# EAGLE library part AD7656BSTZ-1 (library AD7656BSTZ-1--Symbol-Eagle-80)
16-/14-/12-Bit ADC
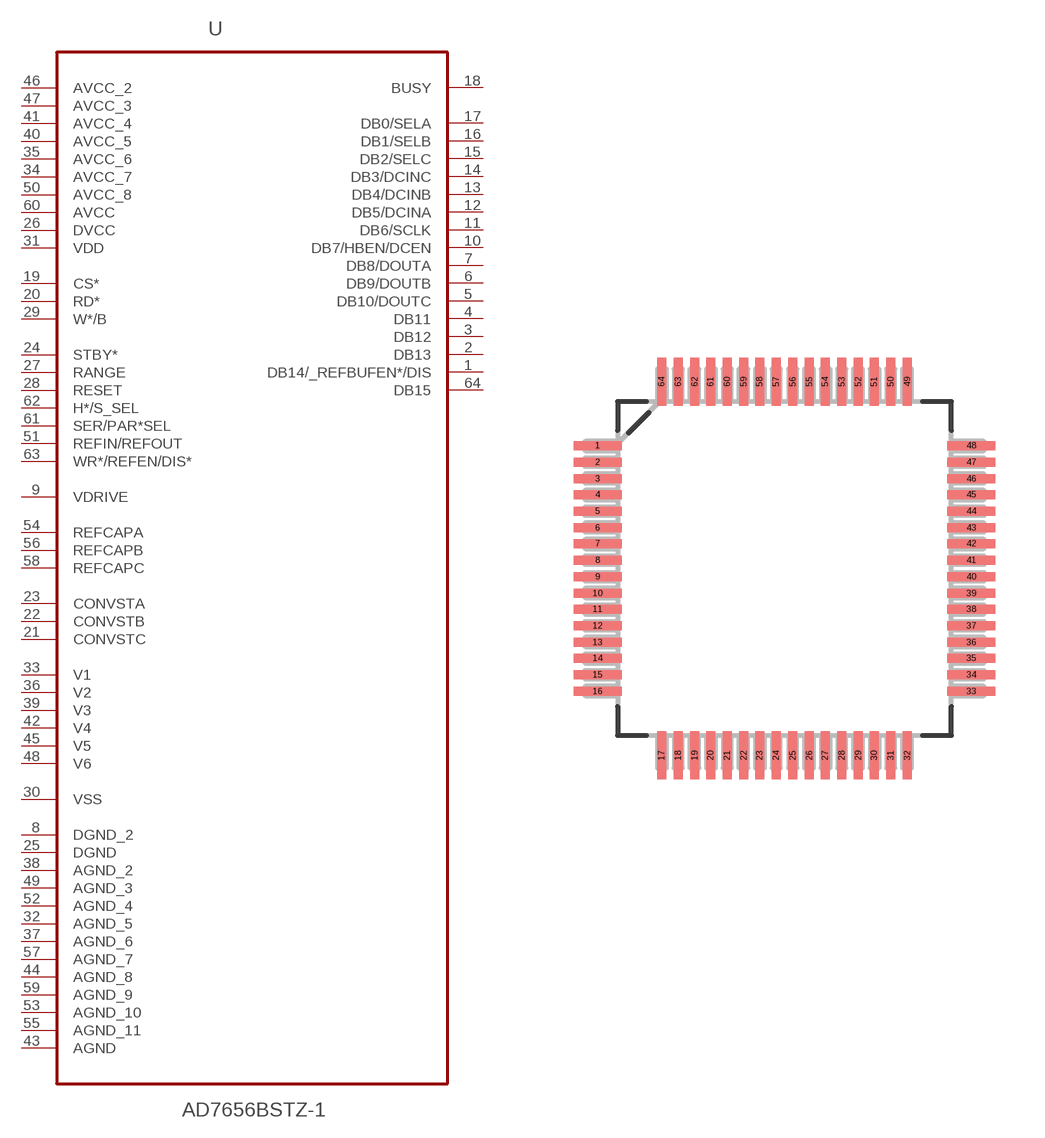
[diagram p0: symbol with the pads of QFP50P1200X1200X160-64N; footprint QFP50P1200X1200X160-64N]

Designator prefix U

## AD7656BSTZ-1 (MPN: AD7656BSTZ-1; OC_FARNELL: 2067752; OC_NEWARK: 07P8952; PACKAGE: LQFP-64; SUPPLIER: Analog Devices)  [QFP50P1200X1200X160-64N]
1  DB14/_REFBUFEN*/DIS
2  DB13
3  DB12
4  DB11  out
5  DB10/DOUTC  out
6  DB9/DOUTB  out
7  DB8/DOUTA  out
8  DGND_2  pas
9  VDRIVE  pwr
10  DB7/HBEN/DCEN  pas
11  DB6/SCLK
12  DB5/DCINA
13  DB4/DCINB
14  DB3/DCINC
15  DB2/SELC  out
16  DB1/SELB  out
17  DB0/SELA  out
18  BUSY  out
19  CS*  in
20  RD*  pas
21  CONVSTC  in
22  CONVSTB  in
23  CONVSTA  in
24  STBY*  in
25  DGND  pas
26  DVCC  pwr
27  RANGE  in
28  RESET  in
29  W*/B  in
30  VSS  pwr
31  VDD  pwr
32  AGND_5  pas
33  V1  in
34  AVCC_7  pwr
35  AVCC_6  pwr
36  V2  in
37  AGND_6  pwr
38  AGND_2  pwr
39  V3  in
40  AVCC_5  pwr
41  AVCC_4  pwr
42  V4  in
43  AGND  pas
44  AGND_8  pas
45  V5  in
46  AVCC_2  pwr
47  AVCC_3  pwr
48  V6  in
49  AGND_3  pas
50  AVCC_8  pwr
51  REFIN/REFOUT
52  AGND_4  pas
53  AGND_10  pas
54  REFCAPA  pas
55  AGND_11  pas
56  REFCAPB  pas
57  AGND_7  pas
58  REFCAPC  pas
59  AGND_9  pas
60  AVCC  pwr
61  SER/PAR*SEL  in
62  H*/S_SEL  in
63  WR*/REFEN/DIS*  pas
64  DB15

## Footprint QFP50P1200X1200X160-64N (pad centres in mm)
smd 1.473 x 0.279: 1 -5.715,3.759; 2 -5.715,3.251; 3 -5.715,2.743; 4 -5.715,2.261; 5 -5.715,1.753; 6 -5.715,1.245; 7 -5.715,0.762; 8 -5.715,0.254; 9 -5.715,-0.254; 10 -5.715,-0.762; 11 -5.715,-1.245; 12 -5.715,-1.753; 13 -5.715,-2.261; 14 -5.715,-2.743; 15 -5.715,-3.251; 16 -5.715,-3.759; 33 5.715,-3.759; 34 5.715,-3.251; 35 5.715,-2.743; 36 5.715,-2.261; 37 5.715,-1.753; 38 5.715,-1.245; 39 5.715,-0.762; 40 5.715,-0.254; 41 5.715,0.254; 42 5.715,0.762; 43 5.715,1.245; 44 5.715,1.753; 45 5.715,2.261; 46 5.715,2.743; 47 5.715,3.251; 48 5.715,3.759
smd 0.279 x 1.473: 17 -3.759,-5.715; 18 -3.251,-5.715; 19 -2.743,-5.715; 20 -2.261,-5.715; 21 -1.753,-5.715; 22 -1.245,-5.715; 23 -0.762,-5.715; 24 -0.254,-5.715; 25 0.254,-5.715; 26 0.762,-5.715; 27 1.245,-5.715; 28 1.753,-5.715; 29 2.261,-5.715; 30 2.743,-5.715; 31 3.251,-5.715; 32 3.759,-5.715; 49 3.759,5.715; 50 3.251,5.715; 51 2.743,5.715; 52 2.261,5.715; 53 1.753,5.715; 54 1.245,5.715; 55 0.762,5.715; 56 0.254,5.715; 57 -0.254,5.715; 58 -0.762,5.715; 59 -1.245,5.715; 60 -1.753,5.715; 61 -2.261,5.715; 62 -2.743,5.715; 63 -3.251,5.715; 64 -3.759,5.715